# EAGLE library part AWM625RX (library airwave)
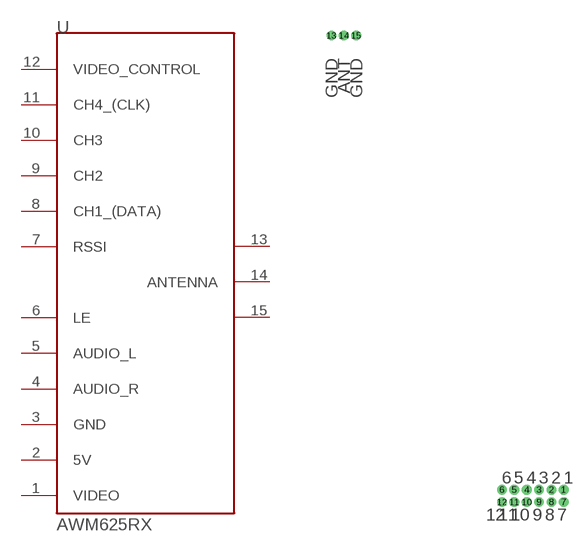
[diagram p0: symbol with the pads of AWM625RX_PACK; footprint AWM625RX_PACK]

Designator prefix -

## AWM625RX  [AWM625RX_PACK]
1  VIDEO  out
2  5V  sup
3  GND  sup
4  AUDIO_R  out
5  AUDIO_L  out
6  LE  out
7  RSSI  out
8  CH1_(DATA)  in
9  CH2  in
10  CH3  in
11  CH4_(CLK)  in
12  VIDEO_CONTROL  in
13    sup
14  ANTENNA  out
15    sup

## Footprint AWM625RX_PACK (pad centres in mm)
drill 0.5 pad 0.813 round: 1 27.34,7.02; 2 26.07,7.02; 3 24.8,7.02; 4 23.53,7.02; 5 22.26,7.02; 6 20.99,7.02; 7 27.34,5.75; 8 26.07,5.75; 9 24.8,5.75; 10 23.53,5.75; 11 22.26,5.75; 12 20.99,5.75; 13 3.46,53.75; 14 4.73,53.75; 15 6,53.75